# EAGLE library part MINI-PCIE-* (library Connector)
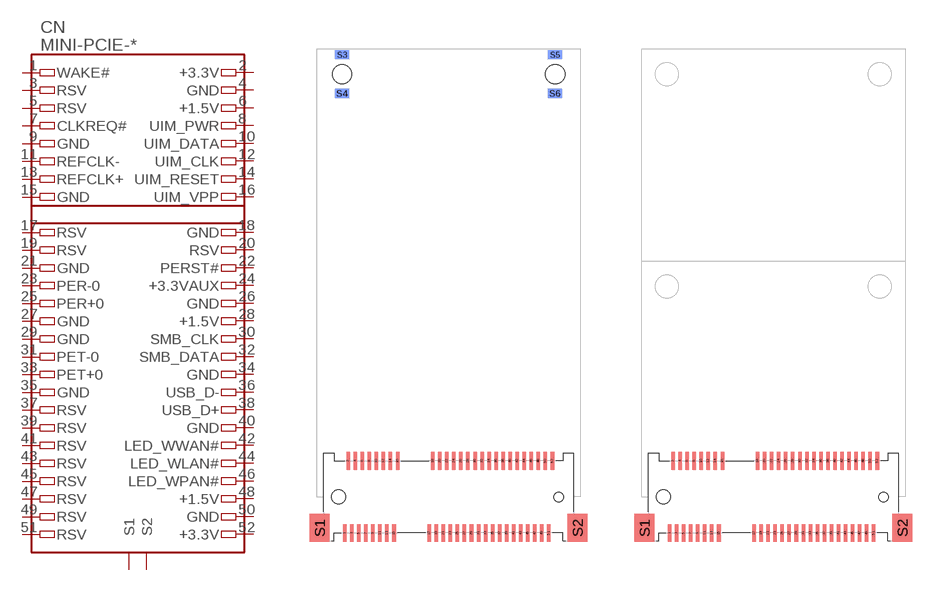
[diagram p15: symbol with the pads of MM60-52-FULL; footprints MM60-52-FULL, MM60-52-ONLY]

Designator prefix CN

## MINI-PCIE-FULL  [MM60-52-FULL]
1  WAKE#  pas
2  +3.3V  pas
3  RSV  pas
4  GND  pas
5  RSV  pas
6  +1.5V  pas
7  CLKREQ#  pas
8  UIM_PWR  pas
9  GND  pas
10  UIM_DATA  pas
11  REFCLK-  pas
12  UIM_CLK  pas
13  REFCLK+  pas
14  UIM_RESET  pas
15  GND  pas
16  UIM_VPP  pas
17  RSV  pas
18  GND  pas
19  RSV  pas
20  RSV  pas
21  GND  pas
22  PERST#  pas
23  PER-0  pas
24  +3.3VAUX  pas
25  PER+0  pas
26  GND  pas
27  GND  pas
28  +1.5V  pas
29  GND  pas
30  SMB_CLK  pas
31  PET-0  pas
32  SMB_DATA  pas
33  PET+0  pas
34  GND  pas
35  GND  pas
36  USB_D-  pas
37  RSV  pas
38  USB_D+  pas
39  RSV  pas
40  GND  pas
41  RSV  pas
42  LED_WWAN#  pas
43  RSV  pas
44  LED_WLAN#  pas
45  RSV  pas
46  LED_WPAN#  pas
47  RSV  pas
48  +1.5V  pas
49  RSV  pas
50  GND  pas
51  RSV  pas
52  +3.3V  pas
S1  S1  pas
S2  S1  pas
S3  S2  pas
S4  S2  pas
S5  S2  pas
S6  S2  pas

## MINI-PCIE-ONLY  [MM60-52-ONLY]
1  WAKE#  pas
2  +3.3V  pas
3  RSV  pas
4  GND  pas
5  RSV  pas
6  +1.5V  pas
7  CLKREQ#  pas
8  UIM_PWR  pas
9  GND  pas
10  UIM_DATA  pas
11  REFCLK-  pas
12  UIM_CLK  pas
13  REFCLK+  pas
14  UIM_RESET  pas
15  GND  pas
16  UIM_VPP  pas
17  RSV  pas
18  GND  pas
19  RSV  pas
20  RSV  pas
21  GND  pas
22  PERST#  pas
23  PER-0  pas
24  +3.3VAUX  pas
25  PER+0  pas
26  GND  pas
27  GND  pas
28  +1.5V  pas
29  GND  pas
30  SMB_CLK  pas
31  PET-0  pas
32  SMB_DATA  pas
33  PET+0  pas
34  GND  pas
35  GND  pas
36  USB_D-  pas
37  RSV  pas
38  USB_D+  pas
39  RSV  pas
40  GND  pas
41  RSV  pas
42  LED_WWAN#  pas
43  RSV  pas
44  LED_WLAN#  pas
45  RSV  pas
46  LED_WPAN#  pas
47  RSV  pas
48  +1.5V  pas
49  RSV  pas
50  GND  pas
51  RSV  pas
52  +3.3V  pas
S1  S1  pas
S2  S2  pas

## MINI-PCIE-HALF  [MM60-52-HALF]
Pads as for MM60-52-FULL

## Footprint MM60-52-FULL (pad centres in mm)
smd 0.4 x 2: 1 -7.95,-4.1; 2 -7.55,4.1; 3 -7.15,-4.1; 4 -6.75,4.1; 5 -6.35,-4.1; 6 -5.95,4.1; 7 -5.55,-4.1; 8 -5.15,4.1; 9 -4.75,-4.1; 10 -4.35,4.1; 11 -3.95,-4.1; 12 -3.55,4.1; 13 -3.15,-4.1; 14 -2.75,4.1; 15 -2.35,-4.1; 16 -1.95,4.1; 17 1.65,-4.1; 18 2.05,4.1; 19 2.45,-4.1; 20 2.85,4.1; 21 3.25,-4.1; 22 3.65,4.1; 23 4.05,-4.1; 24 4.45,4.1; 25 4.85,-4.1; 26 5.25,4.1; 27 5.65,-4.1; 28 6.05,4.1; 29 6.45,-4.1; 30 6.85,4.1; 31 7.25,-4.1; 32 7.65,4.1; 33 8.05,-4.1; 34 8.45,4.1; 35 8.85,-4.1; 36 9.25,4.1; 37 9.65,-4.1; 38 10.05,4.1; 39 10.45,-4.1; 40 10.85,4.1; 41 11.25,-4.1; 42 11.65,4.1; 43 12.05,-4.1; 44 12.45,4.1; 45 12.85,-4.1; 46 13.25,4.1; 47 13.65,-4.1; 48 14.05,4.1; 49 14.45,-4.1; 50 14.85,4.1; 51 15.25,-4.1; 52 15.65,4.1
smd 2.3 x 3.2: S1 -10.8,-3.5; S2 18.5,-3.5
smd 1.6 x 1 bottom: S3 -8.25,50.25; S5 15.95,50.25
smd 1.6 x 1.1 bottom: S4 -8.25,45.85; S6 15.95,45.85
hole 1.6 at -8.65,0
hole 1.1 at 16.35,0
hole 2.2 at -8.25,48.05
hole 2.2 at 15.95,48.05

## Footprint MM60-52-ONLY (pad centres in mm)
smd 0.4 x 2: 1 -7.95,-4.1; 2 -7.55,4.1; 3 -7.15,-4.1; 4 -6.75,4.1; 5 -6.35,-4.1; 6 -5.95,4.1; 7 -5.55,-4.1; 8 -5.15,4.1; 9 -4.75,-4.1; 10 -4.35,4.1; 11 -3.95,-4.1; 12 -3.55,4.1; 13 -3.15,-4.1; 14 -2.75,4.1; 15 -2.35,-4.1; 16 -1.95,4.1; 17 1.65,-4.1; 18 2.05,4.1; 19 2.45,-4.1; 20 2.85,4.1; 21 3.25,-4.1; 22 3.65,4.1; 23 4.05,-4.1; 24 4.45,4.1; 25 4.85,-4.1; 26 5.25,4.1; 27 5.65,-4.1; 28 6.05,4.1; 29 6.45,-4.1; 30 6.85,4.1; 31 7.25,-4.1; 32 7.65,4.1; 33 8.05,-4.1; 34 8.45,4.1; 35 8.85,-4.1; 36 9.25,4.1; 37 9.65,-4.1; 38 10.05,4.1; 39 10.45,-4.1; 40 10.85,4.1; 41 11.25,-4.1; 42 11.65,4.1; 43 12.05,-4.1; 44 12.45,4.1; 45 12.85,-4.1; 46 13.25,4.1; 47 13.65,-4.1; 48 14.05,4.1; 49 14.45,-4.1; 50 14.85,4.1; 51 15.25,-4.1; 52 15.65,4.1
smd 2.3 x 3.2: S1 -10.8,-3.5; S2 18.5,-3.5
hole 1.6 at -8.65,0
hole 1.1 at 16.35,0

## Footprint MM60-52-HALF (pad centres in mm)
smd 0.4 x 2: 1 -7.95,-4.1; 2 -7.55,4.1; 3 -7.15,-4.1; 4 -6.75,4.1; 5 -6.35,-4.1; 6 -5.95,4.1; 7 -5.55,-4.1; 8 -5.15,4.1; 9 -4.75,-4.1; 10 -4.35,4.1; 11 -3.95,-4.1; 12 -3.55,4.1; 13 -3.15,-4.1; 14 -2.75,4.1; 15 -2.35,-4.1; 16 -1.95,4.1; 17 1.65,-4.1; 18 2.05,4.1; 19 2.45,-4.1; 20 2.85,4.1; 21 3.25,-4.1; 22 3.65,4.1; 23 4.05,-4.1; 24 4.45,4.1; 25 4.85,-4.1; 26 5.25,4.1; 27 5.65,-4.1; 28 6.05,4.1; 29 6.45,-4.1; 30 6.85,4.1; 31 7.25,-4.1; 32 7.65,4.1; 33 8.05,-4.1; 34 8.45,4.1; 35 8.85,-4.1; 36 9.25,4.1; 37 9.65,-4.1; 38 10.05,4.1; 39 10.45,-4.1; 40 10.85,4.1; 41 11.25,-4.1; 42 11.65,4.1; 43 12.05,-4.1; 44 12.45,4.1; 45 12.85,-4.1; 46 13.25,4.1; 47 13.65,-4.1; 48 14.05,4.1; 49 14.45,-4.1; 50 14.85,4.1; 51 15.25,-4.1; 52 15.65,4.1
smd 2.3 x 3.2: S1 -10.8,-3.5; S2 18.5,-3.5
smd 1.6 x 1 bottom: S3 -8.25,26.1; S5 15.95,26.1
smd 1.6 x 1.1 bottom: S4 -8.25,21.7; S6 15.95,21.7
hole 1.6 at -8.65,0
hole 1.1 at 16.35,0
hole 2.2 at -8.25,23.9
hole 2.2 at 15.95,23.9